# Altium footprint library HEXCAL_PCB_LIB.PcbLib: 209 footprints (part 5 of 14)
Each footprint in its own frame and in the unit in brackets; x right, y up, seen from the top. Pads: shape width x height; smd on the part's side, far side on the other; paste and mask are expansions set on the pad; w line width, h text height; cw(c..) or ccw(c..) is an arc to the next point about the centre after c.
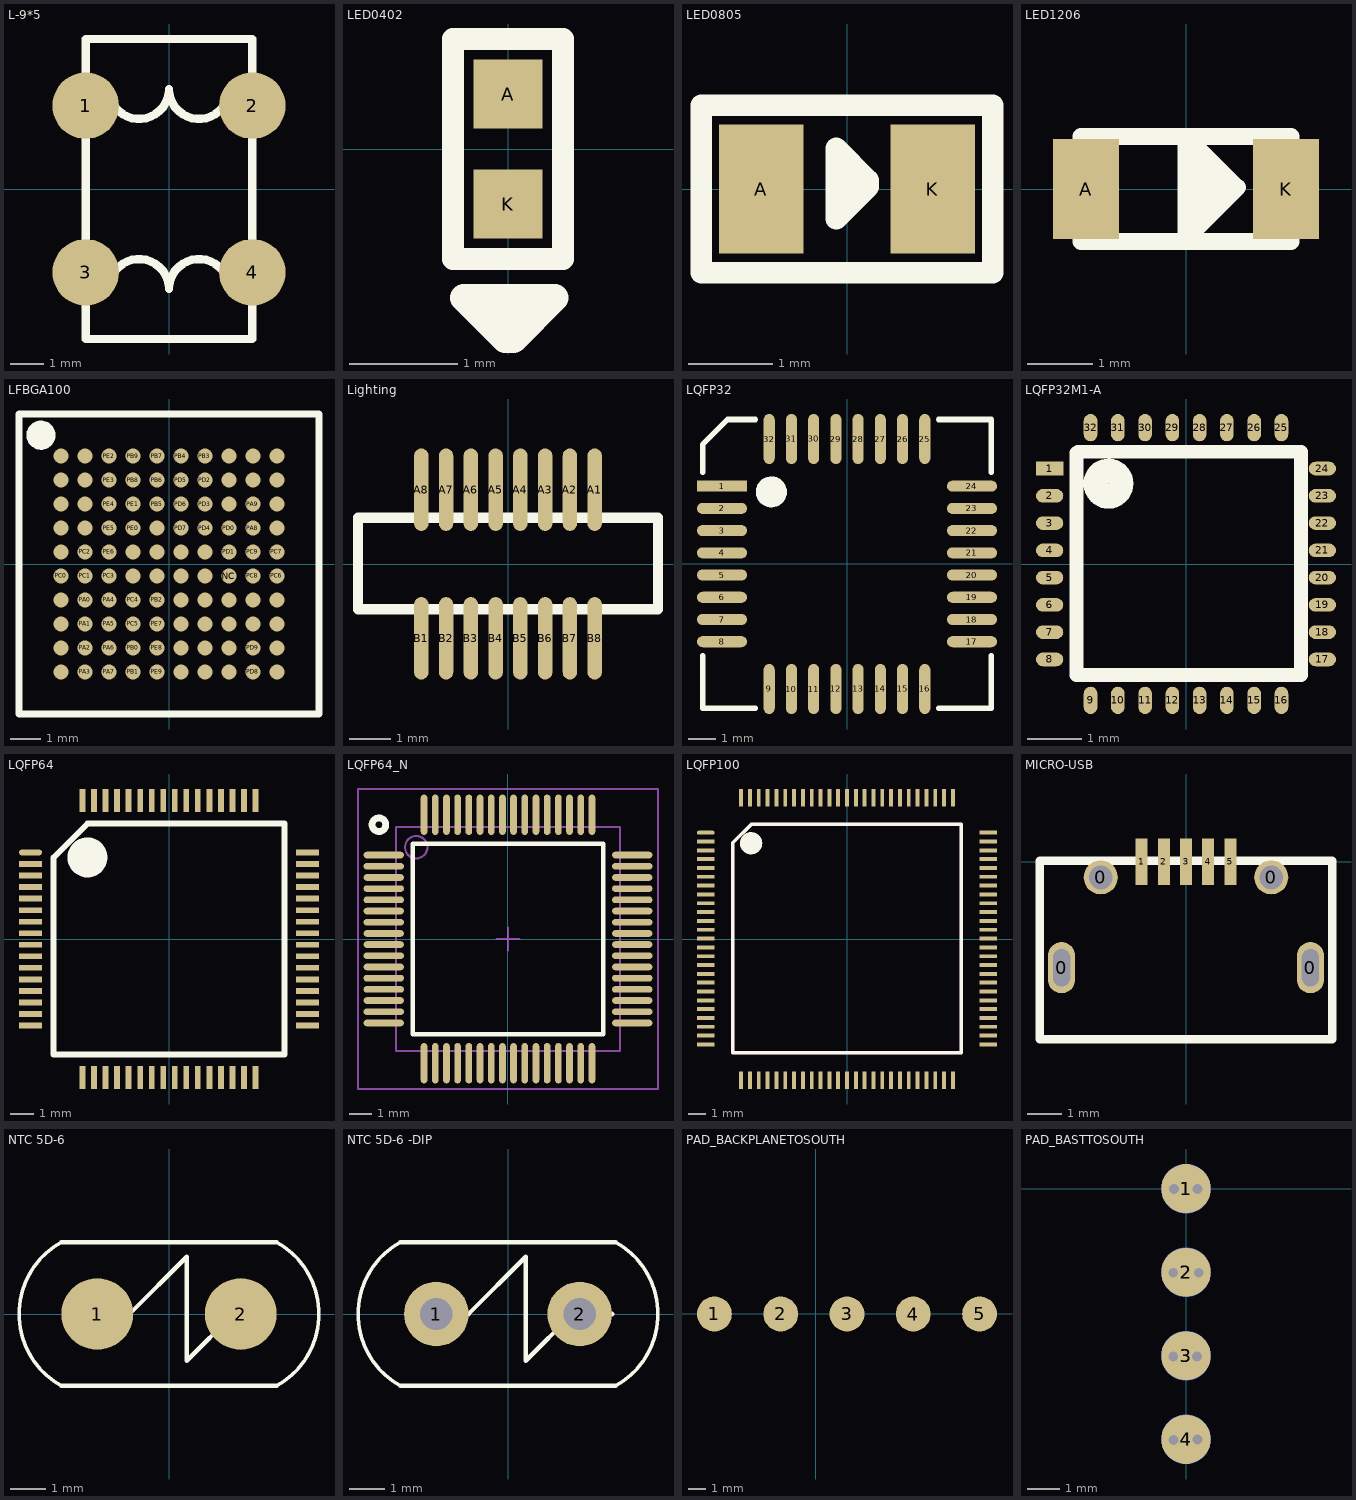
[diagram p4: the footprints below, top view; thin cyan lines are the x and y axes]

## L-9*5 [mm]
pads (4):
  round 2 smd: 1(-2.5,2.5) 2(2.5,2.5) 3(-2.5,-2.5) 4(2.5,-2.5)
Top Overlay:
  lines w0.254: -1.8,-3 cw(c-0.9,-3) 0,-3 cw(c0.9,-3) 1.8,-3 ; -1.8,3 ccw(c-0.9,3) 0,3 ccw(c0.9,3) 1.8,3 ; -2.5,-4.5 -2.5,4.5 2.5,4.5 2.5,-4.5 -2.5,-4.5
Bottom Overlay:
  lines w0.254: -3.05,3.15 ccw(c-2,3.2) -1.95,2.15 ccw(c-1.95,3.05) -1.05,3.05 ccw(c-0.2,3) -0.25,2.15 ccw(c-0.2,3.1) 0.75,3.05 ccw(c1.7,3.1) 1.75,2.15 ccw(c1.7,3) 2.55,3.05 ; -2.85,-3.15 cw(c-1.95,-3.15) -1.95,-2.25 cw(c-1.95,-3.15) -1.05,-3.15 cw(c-0.15,-3.15) -0.15,-2.25 cw(c-0.15,-3.15) 0.75,-3.15 cw(c1.65,-3.05) 1.55,-2.15 cw(c1.55,-3.15) 2.55,-3.15

## LED0402 [mil]
pads (2):
  rect 25x25 smd: A(0,20) K(0,-20)
Top Overlay:
  lines w8: -20,-40 20,-40 20,40 -20,40 -20,-40
  lines w10: -1,-54 -1,-69 ; -1,-69 14,-54 17,-54 ; -1,-69 2,-69 17,-54 ; -1,-69 -16,-54 17,-54

## LED0805 [mil]
pads (2):
  rect 39.37x60 smd: A(-40,0) K(40,0)
Top Overlay:
  lines w10: -5,1 10,1 ; -5,19 -5,-14 10,1 ; -5,19 10,4 10,1 ; -5,19 -5,16 10,1 ; -68,-39 -68,39 -7.5,39 68,39 68,-39 -68,-39

## LED1206 [mil]
pads (2):
  rect 39.37x60 smd: A(-60,0) K(60,0)
Top Overlay:
  lines w10: 3,1 21,1 ; 0,31.5 30.5,1 31,1 0,-30 0,31.5 ; 0,31.5 62.99,31.5 62.99,-31.5 -62.99,-31.5 -62.99,31.5 0,31.5 ; 6,19 6,16 21,1 ; 6,19 21,4 21,1 ; 6,19 6,-17 6,-14 21,1

## LFBGA100 [mm]
pads (100):
  round 0.5 smd: BOOT0(-0.4,1.2) NC(2,-0.4) NRST(-3.6,0.4) OSC_IN(-3.6,2) OSC_OUT(-3.6,1.2) PA0(-2.8,-1.2) PA1(-2.8,-2) PA2(-2.8,-2.8) PA3(-2.8,-3.6) PA4(-2,-1.2) PA5(-2,-2) PA6(-2,-2.8) PA7(-2,-3.6) PA8(2.8,1.2) PA9(2.8,2) PA10(3.6,1.2) PA11(3.6,2) PA12(3.6,2.8) PA13(3.6,3.6) PA14(2.8,3.6) PA15(2,3.6) PB0(-1.2,-2.8) PB1(-1.2,-3.6) PB2(-0.4,-1.2) PB3(1.2,3.6) PB4(0.4,3.6) PB5(-0.4,2) PB6(-0.4,2.8) PB7(-0.4,3.6) PB8(-1.2,2.8) PB9(-1.2,3.6) PB10(1.2,-2.8) PB11(1.2,-3.6) PB12(2,-3.6) PB13(2,-2.8) PB14(2,-2) PB15(2,-1.2) PC0(-3.6,-0.4) PC1(-2.8,-0.4) PC2(-2.8,0.4) PC3(-2,-0.4) PC4(-1.2,-1.2) PC5(-1.2,-2) PC6(3.6,-0.4) PC7(3.6,0.4) PC8(2.8,-0.4) PC9(2.8,0.4) PC10(2.8,2.8) PC11(2,2.8) PC12(2,2) PC13(-2.8,3.6) PC14(-3.6,3.6) PC15(-3.6,2.8) PD0(2,1.2) PD1(2,0.4) PD2(1.2,2.8) PD3(1.2,2) PD4(1.2,1.2) PD5(0.4,2.8) PD6(0.4,2) PD7(0.4,1.2) PD8(2.8,-3.6) PD9(2.8,-2.8) PD10(2.8,-2) PD11(2.8,-1.2) PD12(3.6,-3.6) PD13(3.6,-2.8) PD14(3.6,-2) PD15(3.6,-1.2) PE0(-1.2,1.2) PE1(-1.2,2) PE2(-2,3.6) PE3(-2,2.8) PE4(-2,2) PE5(-2,1.2) PE6(-2,0.4) PE7(-0.4,-2) PE8(-0.4,-2.8) PE9(-0.4,-3.6) PE10(0.4,-1.2) PE11(0.4,-2) PE12(0.4,-2.8) PE13(0.4,-3.6) PE14(1.2,-1.2) PE15(1.2,-2) VBAT(-2.8,2.8) VDD_1(1.2,-0.4) VDD_2(0.4,-0.4) VDD_3(-0.4,-0.4) VDD_4(-1.2,-0.4) VDD_5(-2.8,1.2) VDDA(-3.6,-3.6) VREF+(-3.6,-2.8) VREF-(-3.6,-2) VSS_1(1.2,0.4) VSS_2(0.4,0.4) VSS_3(-0.4,0.4) VSS_4(-1.2,0.4) VSS_5(-2.8,2) VSSA(-3.6,-1.2)
Top Overlay:
  circle w0.254: c-4.267,4.293 r0.114
  circle w0.254: c-4.267,4.293 r0.18
  circle w0.254: c-4.267,4.293 r0.359
  lines w0.25: -5,-5 -5,5 5,5 5,-5 -5,-5

## Lighting [mm]
pads (16):
  oval 0.35x2 smd: A1(2.1,1.8) A2(1.5,1.8) A3(0.9,1.8) A4(0.3,1.8) A5(-0.3,1.8) A6(-0.9,1.8) A7(-1.5,1.8) A8(-2.1,1.8) B1(-2.1,-1.8) B2(-1.5,-1.8) B3(-0.9,-1.8) B4(-0.3,-1.8) B5(0.3,-1.8) B6(0.9,-1.8) B7(1.5,-1.8) B8(2.1,-1.8)
Top Overlay:
  lines w0.254: -3.632,-1.092 3.632,-1.092 3.632,1.118 1.782,1.118 -3.632,1.118 -3.632,-1.092

## LQFP32 [mm]
pads (32):
  rect 1.8x0.4 smd: 1(-4.5,2.8)
  oval 1.8x0.4 smd: 2(-4.5,2) 3(-4.5,1.2) 4(-4.5,0.4) 5(-4.5,-0.4) 6(-4.5,-1.2) 7(-4.5,-2) 8(-4.5,-2.8) 17(4.5,-2.8) 18(4.5,-2) 19(4.5,-1.2) 20(4.5,-0.4) 21(4.5,0.4) 22(4.5,1.2) 23(4.5,2) 24(4.5,2.8)
  oval 0.4x1.8 smd: 9(-2.8,-4.502) 10(-2,-4.502) 11(-1.2,-4.502) 12(-0.4,-4.502) 13(0.4,-4.502) 14(1.2,-4.502) 15(2,-4.502) 16(2.8,-4.502) 25(2.8,4.498) 26(2,4.498) 27(1.2,4.498) 28(0.4,4.498) 29(-0.4,4.498) 30(-1.2,4.498) 31(-2,4.498) 32(-2.8,4.498)
Top Overlay:
  circle w0.254: c-2.724,2.594 r0.434
  circle w0.254: c-2.724,2.594 r0.201
  circle w0.254: c-2.724,2.594 r0.086
  lines w0.2: -5.2,-3.3 -5.2,-5.2 -3.3,-5.2 ; -5.2,3.3 -5.2,4.3 -4.3,5.2 -3.3,5.2 ; 3.3,-5.2 5.2,-5.2 5.2,-3.3 ; 3.3,5.2 5.2,5.2 5.2,3.3

## LQFP32M1-A [mm]
pads (32):
  rect 0.5x0.25 smd: 1(-2.5,1.75)
  oval 0.5x0.25 smd: 2(-2.5,1.25) 3(-2.5,0.75) 4(-2.5,0.25) 5(-2.5,-0.25) 6(-2.5,-0.75) 7(-2.5,-1.25) 8(-2.5,-1.75) 17(2.5,-1.75) 18(2.5,-1.25) 19(2.5,-0.75) 20(2.5,-0.25) 21(2.5,0.25) 22(2.5,0.75) 23(2.5,1.25) 24(2.5,1.75)
  oval 0.25x0.5 smd: 9(-1.75,-2.5) 10(-1.25,-2.5) 11(-0.75,-2.5) 12(-0.25,-2.5) 13(0.25,-2.5) 14(0.75,-2.5) 15(1.25,-2.5) 16(1.75,-2.5) 25(1.75,2.5) 26(1.25,2.5) 27(0.75,2.5) 28(0.25,2.5) 29(-0.25,2.5) 30(-0.75,2.5) 31(-1.25,2.5) 32(-1.75,2.5)
Top Overlay:
  circle w0.254: c-1.422,1.473 r0.332
  circle w0.254: c-1.422,1.473 r0.134
  lines w0.254: -2.007,-2.032 2.108,-2.032 2.108,2.057 -1.981,2.057 -2.007,2.032 -2.007,1.829 -2.007,-2.032

## LQFP64 [mm]
pads (64):
  oval 1x0.25 smd: 1(-6,3.75)
  rect 1x0.25 smd: 2(-6,3.25) 3(-6,2.75) 4(-6,2.25) 5(-6,1.75) 6(-6,1.25) 7(-6,0.75) 8(-6,0.25) 9(-6,-0.25) 10(-6,-0.75) 11(-6,-1.25) 12(-6,-1.75) 13(-6,-2.25) 14(-6,-2.75) 15(-6,-3.25) 16(-6,-3.75) 33(6,-3.75) 34(6,-3.25) 35(6,-2.75) 36(6,-2.25) 37(6,-1.75) 38(6,-1.25) 39(6,-0.75) 40(6,-0.25) 41(6,0.25) 42(6,0.75) 43(6,1.25) 44(6,1.75) 45(6,2.25) 46(6,2.75) 47(6,3.25) 48(6,3.75)
  rect 0.25x1 smd: 17(-3.75,-6) 18(-3.25,-6) 19(-2.75,-6) 20(-2.25,-6) 21(-1.75,-6) 22(-1.25,-6) 23(-0.75,-6) 24(-0.25,-6) 25(0.25,-6) 26(0.75,-6) 27(1.25,-6) 28(1.75,-6) 29(2.25,-6) 30(2.75,-6) 31(3.25,-6) 32(3.75,-6) 49(3.75,6) 50(3.25,6) 51(2.75,6) 52(2.25,6) 53(1.75,6) 54(1.25,6) 55(0.75,6) 56(0.25,6) 57(-0.25,6) 58(-0.75,6) 59(-1.25,6) 60(-1.75,6) 61(-2.25,6) 62(-2.75,6) 63(-3.25,6) 64(-3.75,6)
Top Overlay:
  circle w1.2: c-3.534,3.534 r0.262
  lines w0.254: -5,-5 5,-5 5,5 0,5 -3.534,5 -5,3.534 -5,-5

## LQFP64_N [mm]
pads (64):
  oval 1.8x0.3 smd: 1(-5.55,3.75) 2(-5.55,3.25) 3(-5.55,2.75) 4(-5.55,2.25) 5(-5.55,1.75) 6(-5.55,1.25) 7(-5.55,0.75) 8(-5.55,0.25) 9(-5.55,-0.25) 10(-5.55,-0.75) 11(-5.55,-1.25) 12(-5.55,-1.75) 13(-5.55,-2.25) 14(-5.55,-2.75) 15(-5.55,-3.25) 16(-5.55,-3.75) 33(5.55,-3.75) 34(5.55,-3.25) 35(5.55,-2.75) 36(5.55,-2.25) 37(5.55,-1.75) 38(5.55,-1.25) 39(5.55,-0.75) 40(5.55,-0.25) 41(5.55,0.25) 42(5.55,0.75) 43(5.55,1.25) 44(5.55,1.75) 45(5.55,2.25) 46(5.55,2.75) 47(5.55,3.25) 48(5.55,3.75)
  oval 0.3x1.8 smd: 17(-3.75,-5.55) 18(-3.25,-5.55) 19(-2.75,-5.55) 20(-2.25,-5.55) 21(-1.75,-5.55) 22(-1.25,-5.55) 23(-0.75,-5.55) 24(-0.25,-5.55) 25(0.25,-5.55) 26(0.75,-5.55) 27(1.25,-5.55) 28(1.75,-5.55) 29(2.25,-5.55) 30(2.75,-5.55) 31(3.25,-5.55) 32(3.75,-5.55) 49(3.75,5.55) 50(3.25,5.55) 51(2.75,5.55) 52(2.25,5.55) 53(1.75,5.55) 54(1.25,5.55) 55(0.75,5.55) 56(0.25,5.55) 57(-0.25,5.55) 58(-0.75,5.55) 59(-1.25,5.55) 60(-1.75,5.55) 61(-2.25,5.55) 62(-2.75,5.55) 63(-3.25,5.55) 64(-3.75,5.55)
Top Overlay:
  circle w0.305: c-5.766,5.105 r0.305
  lines w0.2: -4.25,-4.25 4.25,-4.25 4.25,4.25 -4.25,4.25 -4.25,-4.25
Mechanical 13:
  circle w0.1: c-4.1,4.1 r0.5
  lines w0.1: -5,-5 5,-5 5,5 -5,5 -5,-5
Mechanical 15:
  lines w0.1: -0.5,0 0.5,0 ; 0,-0.5 0,0.5 ; -6.7,-6.7 6.7,-6.7 6.7,6.7 -6.7,6.7 -6.7,-6.7
3D body: height 1.6, standoff 0, extent -5,-5 5,5

## LQFP100 [mm]
pads (100):
  oval 1x0.22 smd: 1(-8,6.025)
  rect 1x0.22 smd: 2(-8,5.525) 3(-8,5.025) 4(-8,4.525) 5(-8,4.025) 6(-8,3.525) 7(-8,3.025) 8(-8,2.525) 9(-8,2.025) 10(-8,1.525) 11(-8,1.025) 12(-8,0.525) 13(-8,0.025) 14(-8,-0.475) 15(-8,-0.975) 16(-8,-1.475) 17(-8,-1.975) 18(-8,-2.475) 19(-8,-2.975) 20(-8,-3.475) 21(-8,-3.975) 22(-8,-4.475) 23(-8,-4.975) 24(-8,-5.475) 25(-8,-5.975) 51(8,-5.975) 52(8,-5.475) 53(8,-4.975) 54(8,-4.475) 55(8,-3.975) 56(8,-3.475) 57(8,-2.975) 58(8,-2.475) 59(8,-1.975) 60(8,-1.475) 61(8,-0.975) 62(8,-0.475) 63(8,0.025) 64(8,0.525) 65(8,1.025) 66(8,1.525) 67(8,2.025) 68(8,2.525) 69(8,3.025) 70(8,3.525) 71(8,4.025) 72(8,4.525) 73(8,5.025) 74(8,5.525) 75(8,6.025)
  rect 0.22x1 smd: 26(-6,-8) 27(-5.5,-8) 28(-5,-8) 29(-4.5,-8) 30(-4,-8) 31(-3.5,-8) 32(-3,-8) 33(-2.5,-8) 34(-2,-8) 35(-1.5,-8) 36(-1,-8) 37(-0.5,-8) 38(0,-8) 39(0.5,-8) 40(1,-8) 41(1.5,-8) 42(2,-8) 43(2.5,-8) 44(3,-8) 45(3.5,-8) 46(4,-8) 47(4.5,-8) 48(5,-8) 49(5.5,-8) 50(6,-8) 76(6,8) 77(5.5,8) 78(5,8) 79(4.5,8) 80(4,8) 81(3.5,8) 82(3,8) 83(2.5,8) 84(2,8) 85(1.5,8) 86(1,8) 87(0.5,8) 88(0,8) 89(-0.5,8) 90(-1,8) 91(-1.5,8) 92(-2,8) 93(-2.5,8) 94(-3,8) 95(-3.5,8) 96(-4,8) 97(-4.5,8) 98(-5,8) 99(-5.5,8) 100(-6,8)
Top Overlay:
  circle w0.254: c-5.433,5.425 r0.507
  circle w0.254: c-5.433,5.425 r0.102
  lines w0.254: -5.15,5.412 cw(c-5.433,5.425) -5.15,5.425
Top Overlay keep-out:
  lines w0.2: -6.465,-6.44 6.465,-6.44 6.465,6.49 -5.43,6.49 -6.465,5.455 -6.465,-6.44

## MICRO-USB [mm]
pads (9):
  oval 0.8x1.5 hole 0.5 slot 1.1 at 90 deg: 0(-3.65,-3.107) 0(3.65,-3.107)
  round 1 hole 0.7: 0(-2.5,-0.457) 0(2.5,-0.457)
  rect 0.35x1.35 smd: 1(-1.3,0) 2(-0.65,0) 3(0,0) 4(0.65,0) 5(1.3,0)
Top Overlay:
  lines w0.254: -4.293,-5.207 -4.293,0.025 4.293,0.025 4.293,-5.207 -4.293,-5.207

## NTC 5D-6 [mm]
pads (2):
  round 2 smd: 1(-2,0) 2(2,0)
Top Overlay:
  lines w0.1: -3,-2 cw(c-1.9,0) -3,2 ; 3,-2 ccw(c1.9,0) 3,2
  lines w0.127: -3,-2 3,-2 ; -3,2 3,2 ; -2.4,0 -1.1,0 0.5,1.6 0.5,-1.3 1.8,0 2.9,0

## NTC 5D-6 -DIP [mm]
pads (2):
  round 1.8 hole 0.9: 1(-2,0) 2(2,0)
Top Overlay:
  lines w0.1: -3,-2 cw(c-1.9,0) -3,2 ; 3,-2 ccw(c1.9,0) 3,2
  lines w0.127: -3,-2 3,-2 ; -3,2 3,2 ; -2.4,0 -1.1,0 0.5,1.6 0.5,-1.3 1.8,0 2.9,0

## PAD_BACKPLANETOSOUTH [mm]
pads (5):
  round 2 smd: 1(-5.815,-0.019) 2(-2.015,-0.019) 3(1.785,-0.019) 4(5.585,-0.019) 5(9.385,-0.019)

## PAD_BASTTOSOUTH [mm]
pads (8):
  round 1.5 smd: 1(0,0) 2(0,-2.54) 3(0,-5.08) 4(0,-7.62)
  round 1.5 smd far side: 1(0,0) 2(0,-2.54) 3(0,-5.08) 4(0,-7.62)
via 0.351,-7.624 diameter 0.5 hole 0.3
via -0.383,-7.635 diameter 0.5 hole 0.3
via 0.335,-5.102 diameter 0.5 hole 0.3
via -0.388,-5.102 diameter 0.5 hole 0.3
via 0.389,-2.554 diameter 0.5 hole 0.3
via -0.388,-2.554 diameter 0.5 hole 0.3
via 0.346,-0.011 diameter 0.5 hole 0.3
via -0.37,-0.009 diameter 0.5 hole 0.3